# EAGLE library part TMC389-LA (library trinamic)
TRINAMIC Energy efficient 3-phase microstep driver for external MOSFET's for up to 6A with coolStep™ Information given in this library is believed to be accurate and reliable. However no warranty is given for its correctness. Datasheet for TMC389 <http://www.trinamic.com/tmc/media/Downloads/integrated_circuits/TMC389/TMC389_datasheet.pdf> Description Energy efficient 3-phase microstep driver for external MOSFET's for up to 6A with coolStep™ The TMC389 is the first energy efficient high current high precision microstepping driver IC for 3-phase bipolar stepper motors. Using low resonance 3-phase stepper motors the smoothness at low speed can be increased significantly compared to a 2-phase stepper motor solution. The unique high resolution sensorless load detection stallGuard2™ is used to for the world™ s first integrated load dependent current control feature called coolStep™ . The ability to read out the load and detect an overload makes the TMC389 an optimum choice for drives where a high reliability is desired at a low cost. The new for 3-phase motors adapted spreadCycle 3p PWM automatic mixed decay chopper scheme ensures highest smoothness and best zero crossing performance. The TMC389 can be driven with Step & Direction signals as well as by serial SPI™ interface. Using the microPlyer x16 allows to operate the motor with highest µStep smoothness reducing the input frequency divided by 16. A full set of protection and diagnostic features makes this device very rugged. It directly drives external MOSFETs for currents of up to 6A. This way it reaches highest energy efficiency and allows driving of a high motor current without cooling measures even at high environment temperatures. Specifications Main characteristics 3-phase bipolar stepper motor driver stallGuard2™ sensorless load detection coolStep™ load dependent current control save up to 80% energy spreadCycle 3p PWM automatic mixed decay chopper highest smoothness best current zero crossing performance best sine wave form 171 µSteps/fullstep (51200 pos/rev.) with a standard 300 step motor (resolution is equivalent to 256µSteps with a 2-phase motor) microPlyer x16 µStep multiplyer full protection and diagnostics lowest power dissipation programmable slope control for low EME standby and shutdown mode stall / load detection output Low power consumption via low RDS-ON power stage Interface Step & Direction easy-to-use SPI™ (20bit) Electrical Data up to 6A coil current (peak) with just 3 external dual MOSFETS 9V to 60V motor supply full 48V +10% industry voltage support 3.3V or 5V operation for digital part Package QFN32 5x5 mm² chip size package RoHS compliant
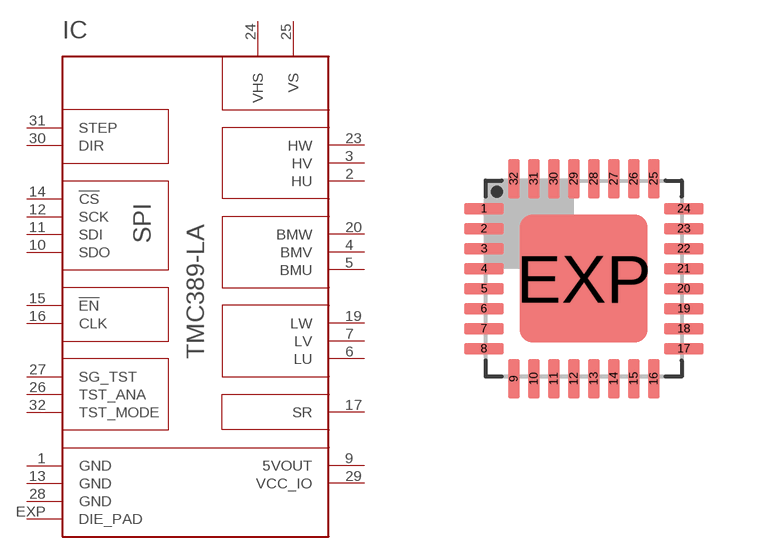
[diagram p22: symbol with the pads of QFN32_5X5; footprint QFN32_5X5]

Designator prefix IC

## TMC389-LA  [QFN32_5X5]
1  GND  in
2  HU  out
3  HV  out
4  BMV  out
5  BMU  out
6  LU  out
7  LV  out
9  5VOUT  out
10  SDO  hiz
11  SDI  in
12  SCK  in
13  GND  in
14  !CS  in
15  !EN  in
16  CLK  in
17  SR  in
19  LW  out
20  BMW  out
23  HW  out
24  VHS  in
25  VS  in
26  TST_ANA  out
27  SG_TST  out
28  GND  in
29  VCC_IO  in
30  DIR  in
31  STEP  in
32  TST_MODE  in
EXP  DIE_PAD  in

## Footprint QFN32_5X5 (pad centres in mm)
smd 1 x 0.3: 1 -2.5,1.75; 2 -2.5,1.25; 3 -2.5,0.75; 4 -2.5,0.25; 5 -2.5,-0.25; 6 -2.5,-0.75; 7 -2.5,-1.25; 8 -2.5,-1.75; 17 2.5,-1.75; 18 2.5,-1.25; 19 2.5,-0.75; 20 2.5,-0.25; 21 2.5,0.25; 22 2.5,0.75; 23 2.5,1.25; 24 2.5,1.75
smd 0.3 x 1: 9 -1.75,-2.5; 10 -1.25,-2.5; 11 -0.75,-2.5; 12 -0.25,-2.5; 13 0.25,-2.5; 14 0.75,-2.5; 15 1.25,-2.5; 16 1.75,-2.5; 25 1.75,2.5; 26 1.25,2.5; 27 0.75,2.5; 28 0.25,2.5; 29 -0.25,2.5; 30 -0.75,2.5; 31 -1.25,2.5; 32 -1.75,2.5
smd 3.2 x 3.2: EXP 0,0